# Altium schematic symbol library Passive.SchLib: 61 symbols
Pins are listed as number, name and electrical type; pins without a type are passive.

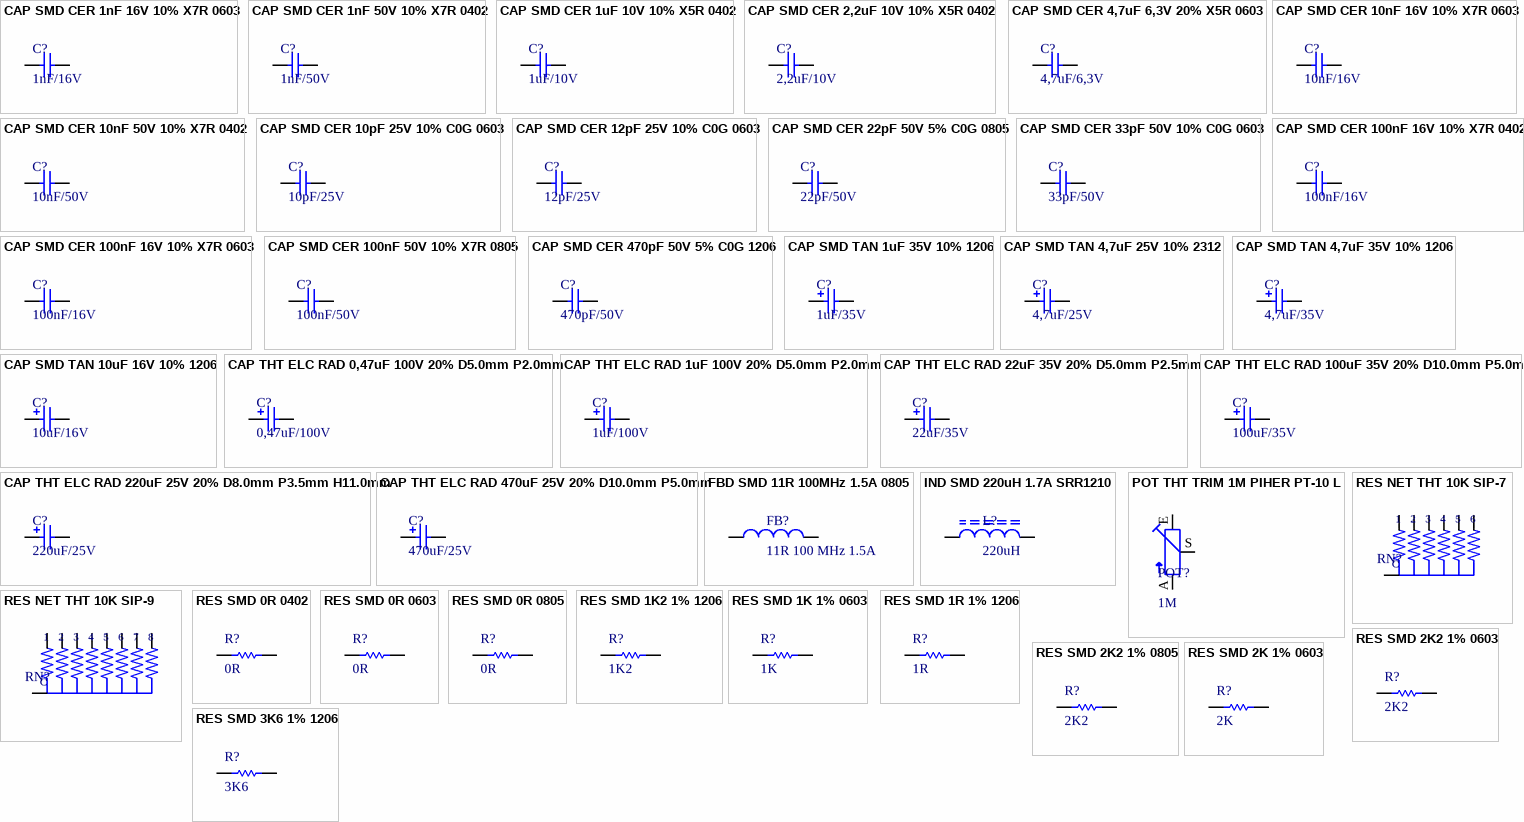
[diagram p0: symbols CAP SMD CER 1nF 16V 10% X7R 0603 to RES SMD 3K6 1% 1206]

## CAP SMD CER 1nF 16V 10% X7R 0603
designator C?, comment 1nF/16V
footprint SMD 0603 GENERIC
pins: 1, 2

## CAP SMD CER 1nF 50V 10% X7R 0402
designator C?, comment 1nF/50V
footprint SMD 0402 GENERIC
pins: 1, 2

## CAP SMD CER 1uF 10V 10% X5R 0402
designator C?, comment 1uF/10V
footprint SMD 0402 GENERIC
pins: 1, 2

## CAP SMD CER 2,2uF 10V 10% X5R 0402
designator C?, comment 2,2uF/10V
footprint SMD 0402 GENERIC
pins: 1, 2

## CAP SMD CER 4,7uF 6,3V 20% X5R 0603
designator C?, comment 4,7uF/6,3V
footprint SMD 0603 GENERIC
pins: 1, 2

## CAP SMD CER 10nF 16V 10% X7R 0603
designator C?, comment 10nF/16V
footprint SMD 0603 GENERIC
pins: 1, 2

## CAP SMD CER 10nF 50V 10% X7R 0402
designator C?, comment 10nF/50V
footprint SMD 0402 GENERIC
pins: 1, 2

## CAP SMD CER 10pF 25V 10% C0G 0603
designator C?, comment 10pF/25V
footprint SMD 0603 GENERIC
pins: 1, 2

## CAP SMD CER 12pF 25V 10% C0G 0603
designator C?, comment 12pF/25V
footprint SMD 0603 GENERIC
pins: 1, 2

## CAP SMD CER 22pF 50V 5% C0G 0805
designator C?, comment 22pF/50V
footprint SMD 0805 GENERIC
pins: 1, 2

## CAP SMD CER 33pF 50V 10% C0G 0603
designator C?, comment 33pF/50V
footprint SMD 0603 GENERIC
pins: 1, 2

## CAP SMD CER 100nF 16V 10% X7R 0402
designator C?, comment 100nF/16V
footprint SMD 0402 GENERIC
pins: 1, 2

## CAP SMD CER 100nF 16V 10% X7R 0603
designator C?, comment 100nF/16V
footprint SMD 0603 GENERIC
pins: 1, 2

## CAP SMD CER 100nF 50V 10% X7R 0805
designator C?, comment 100nF/50V
footprint SMD 0805 GENERIC
pins: 1, 2

## CAP SMD CER 470pF 50V 5% C0G 1206
designator C?, comment 470pF/50V
footprint SMD 1206 GENERIC
pins: 1, 2

## CAP SMD TAN 1uF 35V 10% 1206
designator C?, comment 1uF/35V
footprint SMD 1206 POLARIZED
pins: 1, 2

## CAP SMD TAN 4,7uF 25V 10% 2312
designator C?, comment 4,7uF/25V
footprint SMD 2312 POLARIZED (BAUFORM C)
pins: 1, 2

## CAP SMD TAN 4,7uF 35V 10% 1206
designator C?, comment 4,7uF/35V
footprint SMD 1206 POLARIZED
pins: 1, 2

## CAP SMD TAN 10uF 16V 10% 1206
designator C?, comment 10uF/16V
footprint SMD 1206 POLARIZED
pins: 1, 2

## CAP THT ELC RAD 0,47uF 100V 20% D5.0mm P2.0mm
designator C?, comment 0,47uF/100V
footprint THT CAP RAD D5.0mm P2.0mm
pins: 1, 2

## CAP THT ELC RAD 1uF 100V 20% D5.0mm P2.0mm
designator C?, comment 1uF/100V
footprint THT CAP RAD D5.0mm P2.0mm
pins: 1, 2

## CAP THT ELC RAD 22uF 35V 20% D5.0mm P2.5mm
designator C?, comment 22uF/35V
footprint THT CAP RAD D5.0mm P2.5mm
pins: 1, 2

## CAP THT ELC RAD 100uF 35V 20% D10.0mm P5.0mm
designator C?, comment 100uF/35V
footprint THT CAP RAD D10.0mm P5.0mm
pins: 1, 2

## CAP THT ELC RAD 220uF 25V 20% D8.0mm P3.5mm H11.0mm
designator C?, comment 220uF/25V
footprint THT CAP RAD D8.0mm P3.5mm H11.0mm
pins: 1, 2

## CAP THT ELC RAD 470uF 25V 20% D10.0mm P5.0mm
designator C?, comment 470uF/25V
footprint THT CAP RAD D10.0mm P5.0mm
pins: 1, 2

## FBD SMD 11R 100MHz 1.5A 0805
designator FB?, comment 11R 100 MHz 1.5A
footprint SMD 0805 GENERIC
pins: 1, 2

## IND SMD 220uH 1.7A SRR1210
designator L?, comment 220uH
footprint SMD IND SRR1210
pins: 1, 2

## POT THT TRIM 1M PIHER PT-10 L
designator POT?, comment 1M
footprint THT POT TRIM PIHER PT-10 L
pins: A, E, S

## RES NET THT 10K SIP-7
designator RN?
4607X-101-103LF
footprint THT SIP-7
pins: 1, 2, 3, 4, 5, 6, C

## RES NET THT 10K SIP-9
designator RN?
4609X-101-103LF
footprint THT SIP-9
pins: 1, 2, 3, 4, 5, 6, 7, 8, C

## RES SMD 0R 0402
designator R?, comment 0R
footprint SMD 0402 GENERIC
pins: 1, 2

## RES SMD 0R 0603
designator R?, comment 0R
footprint SMD 0603 GENERIC
pins: 1, 2

## RES SMD 0R 0805
designator R?, comment 0R
footprint SMD 0805 GENERIC
pins: 1, 2

## RES SMD 1K2 1% 1206
designator R?, comment 1K2
footprint SMD 1206 GENERIC
pins: 1, 2

## RES SMD 1K 1% 0603
designator R?, comment 1K
footprint SMD 0603 GENERIC
pins: 1, 2

## RES SMD 1R 1% 1206
designator R?, comment 1R
footprint SMD 1206 GENERIC
pins: 1, 2

## RES SMD 2K2 1% 0603
designator R?, comment 2K2
footprint SMD 0603 GENERIC
pins: 1, 2

## RES SMD 2K2 1% 0805
designator R?, comment 2K2
footprint SMD 0805 GENERIC
pins: 1, 2

## RES SMD 2K 1% 0603
designator R?, comment 2K
footprint SMD 0603 GENERIC
pins: 1, 2

## RES SMD 3K6 1% 1206
designator R?, comment 3K6
footprint SMD 1206 GENERIC
pins: 1, 2

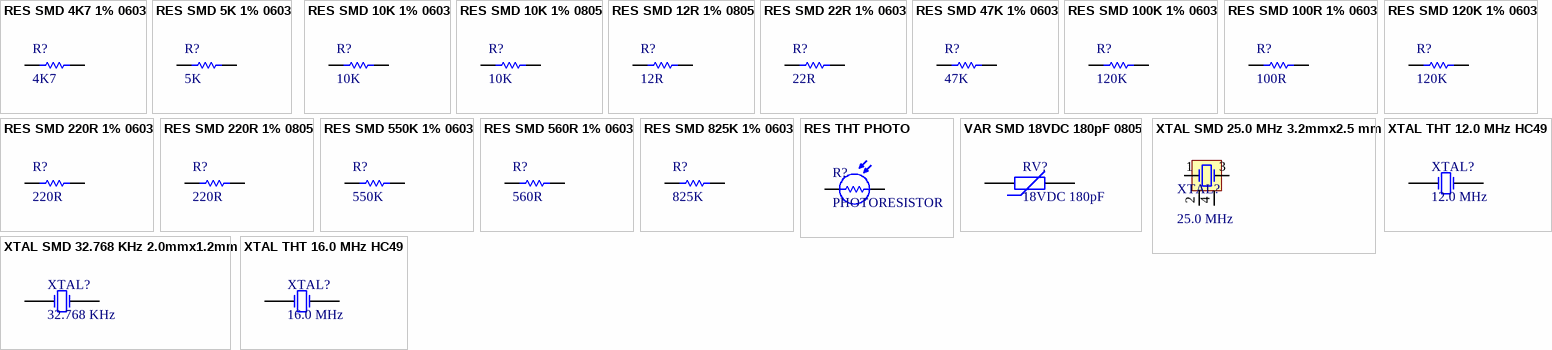
[diagram p1: symbols RES SMD 4K7 1% 0603 to XTAL THT 16.0 MHz HC49]

## RES SMD 4K7 1% 0603
designator R?, comment 4K7
footprint SMD 0603 GENERIC
pins: 1, 2

## RES SMD 5K 1% 0603
designator R?, comment 5K
footprint SMD 0603 GENERIC
pins: 1, 2

## RES SMD 10K 1% 0603
designator R?, comment 10K
footprint SMD 0603 GENERIC
pins: 1, 2

## RES SMD 10K 1% 0805
designator R?, comment 10K
footprint SMD 0805 GENERIC
pins: 1, 2

## RES SMD 12R 1% 0805
designator R?, comment 12R
footprint SMD 0805 GENERIC
pins: 1, 2

## RES SMD 22R 1% 0603
designator R?, comment 22R
footprint SMD 0603 GENERIC
pins: 1, 2

## RES SMD 47K 1% 0603
designator R?, comment 47K
footprint SMD 0603 GENERIC
pins: 1, 2

## RES SMD 100K 1% 0603
designator R?, comment 120K
footprint SMD 0603 GENERIC
pins: 1, 2

## RES SMD 100R 1% 0603
designator R?, comment 100R
footprint SMD 0603 GENERIC
pins: 1, 2

## RES SMD 120K 1% 0603
designator R?, comment 120K
footprint SMD 0603 GENERIC
pins: 1, 2

## RES SMD 220R 1% 0603
designator R?, comment 220R
footprint SMD 0603 GENERIC
pins: 1, 2

## RES SMD 220R 1% 0805
designator R?, comment 220R
footprint SMD 0805 GENERIC
pins: 1, 2

## RES SMD 550K 1% 0603
designator R?, comment 550K
footprint SMD 0603 GENERIC
pins: 1, 2

## RES SMD 560R 1% 0603
designator R?, comment 560R
footprint SMD 0603 GENERIC
pins: 1, 2

## RES SMD 825K 1% 0603
designator R?, comment 825K
footprint SMD 0603 GENERIC
pins: 1, 2

## RES THT PHOTO
designator R?, comment PHOTORESISTOR
footprint THT PHOTORESISTOR
pins: 1, 2

## VAR SMD 18VDC 180pF 0805
designator RV?, comment 18VDC 180pF
footprint SMD 0805 GENERIC
pins: 1, 2

## XTAL SMD 25.0 MHz 3.2mmx2.5 mm
designator XTAL?, comment 25.0 MHz
ABM8G-25.000MHZ-18-D2Y-T
footprint SMD-4 XTAL 3.2mmx2.5mm
pins: 1 OSC1, 2 GND (power), 3 OSC2, 4 GND (power)

## XTAL SMD 32.768 KHz 2.0mmx1.2mm
designator XTAL?, comment 32.768 KHz
footprint SMD-2 XTAL 2.0mmx1.2mm
pins: 1 OSC1, 2 OSC2

## XTAL THT 12.0 MHz HC49
designator XTAL?, comment 12.0 MHz
footprint THT XTAL HC49
pins: 1 OSC1, 2 OSC2

## XTAL THT 16.0 MHz HC49
designator XTAL?, comment 16.0 MHz
footprint THT XTAL HC49
pins: 1 OSC1, 2 OSC2